# Altium schematic symbol library ABM3-25P000MHZ-D2Y-T.SchLib: 1 symbol
Pins are listed as number, name and electrical type; pins without a type are passive.

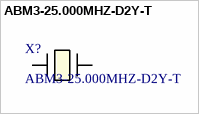
[diagram p0: symbol ABM3-25.000MHZ-D2Y-T]

## ABM3-25.000MHZ-D2Y-T
designator X?
Description; Manufacturer_Name: Abracon; Type: Crystals; Copyright: Copyright (C) 2025 Ultra Librarian. All rights reserved.; Manufacturer_Part_Number: ABM3-25.000MHZ-D2Y-T
footprint XTAL_ABM3_ABR
pins: 1, 2